# Altium schematic symbol library LED_3d2_1d6.SchLib: 1 symbol
Pins are listed as number, name and electrical type; pins without a type are passive.

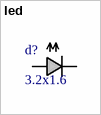
[diagram p0: symbol led]

## led
designator d?, comment 3.2x1.6
footprint LED3_2X1_6
pins: A, C